# Altium schematic symbol library Dumber.SchLib: 4 symbols
Pins are listed as number, name and electrical type; pins without a type are passive.

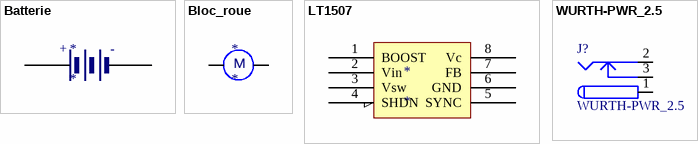
[diagram p0: symbols Batterie to WURTH-PWR_2.5]

## Batterie
designator *
footprint batterie
pins: V+, V-
text: +; -

## Bloc_roue
designator *
footprint Bloc roue
text: M

## LT1507
designator *
footprint 8 pin SOIC_L (8-Pin Small Outline Integrated Circuit 1.27 mm Pitch, IPC High Density)
pins: 1 BOOST, 2 Vin, 3 Vsw, 4 SHDN, 5 SYNC, 6 GND, 7 FB, 8 Vc

## WURTH-PWR_2.5
designator J?
Low Voltage Power Supply Connector; Published: 17-Dec-2003; DatasheetDocument: 09-May-2002; Publisher: Altium Limited; ComponentLink1Description: Manufacturer Link; ComponentLink1URL: http://domino.kycon.com/internet/Products.html
signal-integrity model Connector
footprint Wurth_2.5
pins: 1 (power), 1A (power), 1B (power), 2 (power), 2A (power), 2B (power), 3 (power), 3A (power), 3B (power)